# Altium footprint library 3dprinter_shield.PcbLib: 8 footprints
Each footprint in its own frame and in the unit in brackets; x right, y up, seen from the top. Pads: shape width x height; smd on the part's side, far side on the other; paste and mask are expansions set on the pad; w line width, h text height; cw(c..) or ccw(c..) is an arc to the next point about the centre after c.
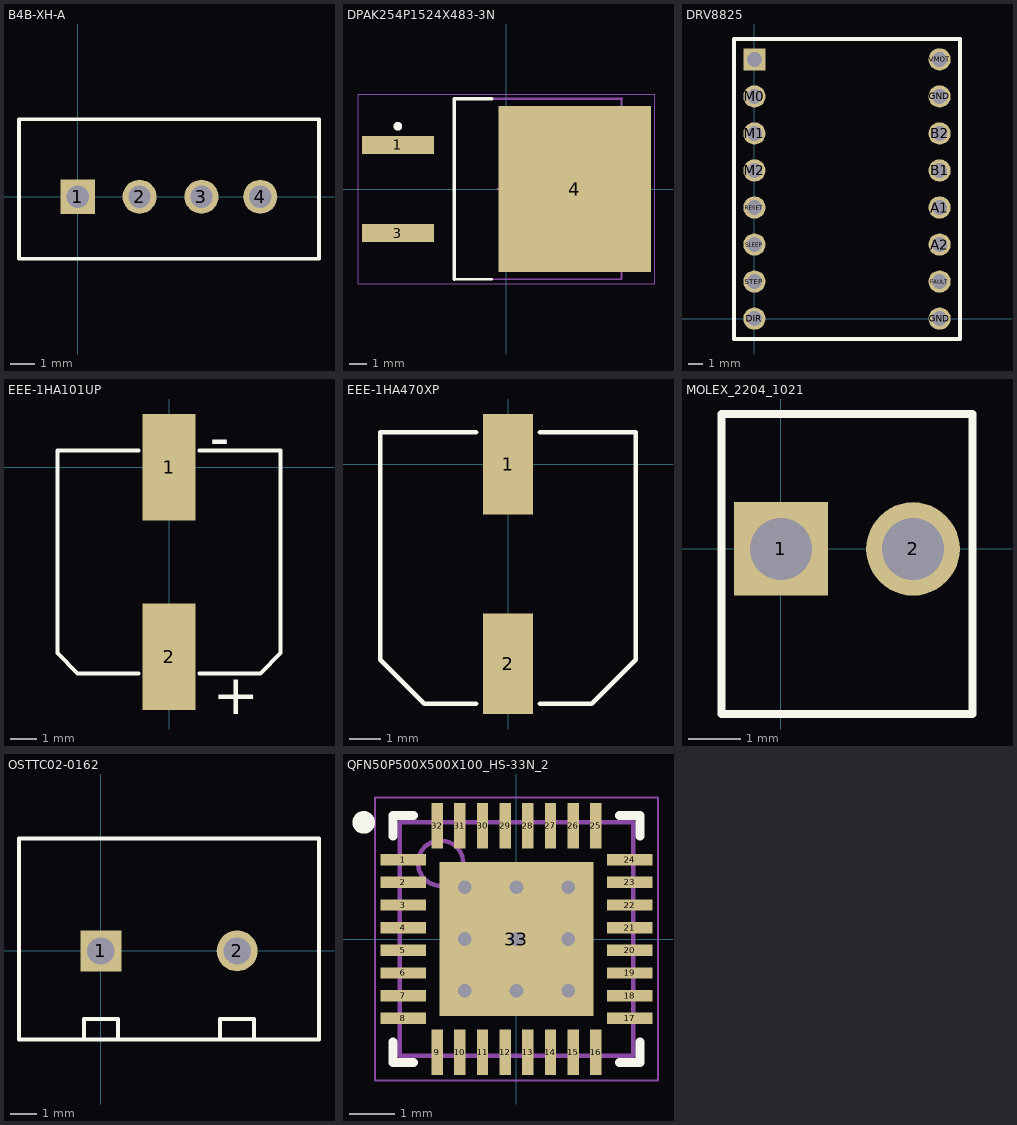
[diagram p0: the footprints below, top view; thin cyan lines are the x and y axes]

## B4B-XH-A [mm]
pads (4):
  rect 1.4x1.4 hole 0.905: 1(0,0)
  round 1.4 hole 0.905: 2(2.54,0) 3(5.08,0) 4(7.493,0)
Top Overlay:
  lines w0.15: -2.413,-2.54 9.906,-2.54 9.906,0 9.906,3.175 -2.413,3.175 -2.413,0 -2.413,-2.54

## DPAK254P1524X483-3N [mm] "D2-PAK, 3-Pads, Body 7.93x8.57mm (max), IPC Medium Density"
height 4.83
pads (3):
  rect 4.15x1.05 smd: 1(-6.25,2.54) 3(-6.25,-2.54)
  rect 8.8x9.6 smd: 4(3.95,0)
Top Overlay:
  circle w0.25: c-6.25,3.615 r0.125
  lines w0.15: -3,-5.2 -0.85,-5.2
  lines w0.2: -3,-5.2 -3,5.2 -0.85,5.2
Mechanical 13:
  lines w0.1: -3,-5.2 6.65,-5.2 6.65,5.2
  lines w0.15: -3,-5.2 -3,5.2 6.65,5.2
Mechanical 15:
  lines w0.05: -8.55,-5.45 -8.55,5.45 8.55,5.45 8.55,-5.45 -8.55,-5.45
  lines w0.1: -0.5,0 0.5,0 ; 0,-0.5 0,0.5
3D body: height 4.83, standoff 0.33, extent -3,-5.2 6.65,5.2

## DRV8825 [mil]
pads (16):
  round 60 hole 40: A1(500,300) A2(500,200) B1(500,400) B2(500,500) DIR(0,0) FAULT(500,100) GND(500,0) GND(500,600) M0(0,600) M1(0,500) M2(0,400) RESET(0,300) SLEEP(0,200) STEP(0,100) VMOT(500,700)
  rect 60x60 hole 40: ENABLE(0,700)
Top Overlay:
  lines w10: -55,-55 -55,755 555,755 555,-55 -55,-55

## EEE-1HA101UP [mm]
pads (2):
  rect 2x4 smd: 1(0,0) 2(0,-7.112)
Top Overlay:
  lines w0.15: -1.143,-7.747 -3.429,-7.747 -4.191,-6.985 -4.191,0.635 -1.143,0.635 ; 1.143,-7.747 3.429,-7.747 4.191,-6.985 4.191,0.635 1.143,0.635
  text "+" at 1.651,-9.271 h1.52
  text "-" at 1.524,0.381 h1.52

## EEE-1HA470XP [mm]
pads (2):
  rect 1.6x3.2 smd: 1(0,0) 2(0,-6.35)
Top Overlay:
  lines w0.025: -4.064,-4.064 -4.064,-3.937
  lines w0.15: -1.016,-7.62 -2.667,-7.62 -4.064,-6.223 -4.064,-6.096 -4.064,-3.937 -4.064,1.016 -1.016,1.016 ; 1.016,-7.62 2.159,-7.62 2.667,-7.62 4.064,-6.223 4.064,-3.937 ; 1.016,1.016 4.064,1.016 4.064,-4.064

## MOLEX_2204_1021 [mm]
pads (2):
  rect 1.8x1.8 hole 1.2: 1(0,0)
  round 1.8 hole 1.2: 2(2.54,0)
Top Overlay:
  lines w0.15: -1.143,-3.175 3.683,-3.175 3.683,2.596 -1.143,2.596 -1.143,-3.175

## OSTTC02-0162 [mil]
pads (2):
  rect 60x60 hole 40: 1(0,0)
  round 60 hole 40: 2(200,0)
Top Overlay:
  lines w1: 320,-125 320,-130.03 ; 320,-130.03 319.97,-130 320,-130.03
  lines w5.91: -25,-130 -25,-100 25,-100 25,-130 ; 175,-130 175,-100 225,-100 225,-125 225,-130 ; 319.97,-130 210,-130 -120,-130 -120,0 -120,65 -120,165 205,165 320,165 320,-125 320,-130

## QFN50P500X500X100_HS-33N_2 [mm] "QFN, 32-Leads, Body 5.00x5.00mm, Pitch 0.50mm, Thermal Pad 3.40x3.40mm, IPC Medium Density"
height 1
pads (33):
  rect 1x0.25 smd: 1(-2.5,1.75) 2(-2.5,1.25) 3(-2.5,0.75) 4(-2.5,0.25) 5(-2.5,-0.25) 6(-2.5,-0.75) 7(-2.5,-1.25) 8(-2.5,-1.75) 17(2.5,-1.75) 18(2.5,-1.25) 19(2.5,-0.75) 20(2.5,-0.25) 21(2.5,0.25) 22(2.5,0.75) 23(2.5,1.25) 24(2.5,1.75)
  rect 0.25x1 smd: 9(-1.75,-2.5) 10(-1.25,-2.5) 11(-0.75,-2.5) 12(-0.25,-2.5) 13(0.25,-2.5) 14(0.75,-2.5) 15(1.25,-2.5) 16(1.75,-2.5) 25(1.75,2.5) 26(1.25,2.5) 27(0.75,2.5) 28(0.25,2.5) 29(-0.25,2.5) 30(-0.75,2.5) 31(-1.25,2.5) 32(-1.75,2.5)
  rect 3.4x3.4 smd: 33(0,0)
via -1.143,1.143 diameter 0.6 hole 0.3
via 0,0 diameter 0.6 hole 0.3
via 0,1.143 diameter 0.6 hole 0.3
via -1.143,0 diameter 0.6 hole 0.3
via -1.143,-1.143 diameter 0.6 hole 0.3
via 0,-1.143 diameter 0.6 hole 0.3
via 1.143,-1.143 diameter 0.6 hole 0.3
via 1.143,0 diameter 0.6 hole 0.3
via 1.143,1.143 diameter 0.6 hole 0.3
Top Overlay:
  circle w0.25: c-3.375,2.575 r0.125
  lines w0.2: -2.725,-2.275 -2.725,-2.725 -2.275,-2.725 ; -2.725,2.275 -2.725,2.725 -2.275,2.725 ; 2.275,-2.725 2.725,-2.725 2.725,-2.275 ; 2.275,2.725 2.725,2.725 2.725,2.275
Mechanical 13:
  circle w0.1: c-1.675,1.675 r0.5
  lines w0.1: -2.575,-2.575 -2.575,2.575 2.575,2.575 2.575,-2.575 -2.575,-2.575
Mechanical 15:
  lines w0.05: -3.125,-3.125 -3.125,3.125 3.125,3.125 3.125,-3.125 -3.125,-3.125
  lines w0.1: -0.5,0 0.5,0 ; 0,-0.5 0,0.5
3D body: height 1, standoff 0.01, extent -2.575,-2.575 2.575,2.575